# Altium schematic symbol library Moskalenko.SchLib: 4 symbols
Pins are listed as number, name and electrical type; pins without a type are passive.

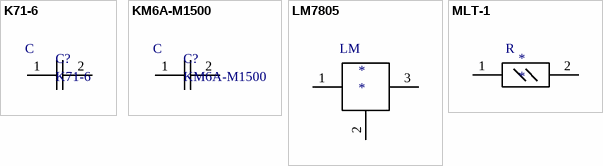
[diagram p0: symbols K71-6 to MLT-1]

## K71-6
designator C?
footprint K71-6
pins: 1, 2
text: C

## KM6A-M1500
designator C?
footprint KM6A-M1500
pins: 1, 2
text: C

## LM7805
designator *
footprint LM7805
pins: 1, 2, 3
text: LM

## MLT-1
designator *
footprint MLT-1
pins: 1, 2
text: R